# Altium footprint library ethernet.PcbLib: 3 footprints
Each footprint in its own frame and in the unit in brackets; x right, y up, seen from the top. Pads: shape width x height; smd on the part's side, far side on the other; paste and mask are expansions set on the pad; w line width, h text height; cw(c..) or ccw(c..) is an arc to the next point about the centre after c.
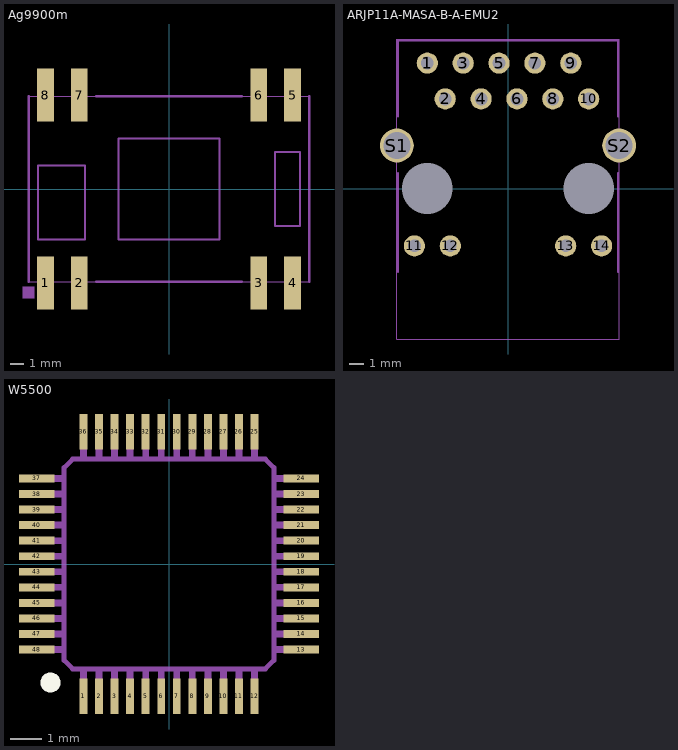
[diagram p0: the footprints below, top view; thin cyan lines are the x and y axes]

## Ag9900m [mm] "PoE Power Supply Module"
pads (8):
  rect 1.25x4 smd: 1(-9.33,-7.1) 2(-6.79,-7.1) 3(6.79,-7.1) 4(9.33,-7.1) 5(9.33,7.1) 6(6.79,7.1) 7(-6.79,7.1) 8(-9.33,7.1)
Mechanical 3:
  region: 9.65,-5.72 9.65,-8.49 9.01,-8.49 9.01,-5.72
  region: 7.11,-5.72 7.11,-8.49 6.47,-8.49 6.47,-5.72
  region: -9.01,-5.72 -9.01,-8.49 -9.65,-8.49 -9.65,-5.72
  region: -6.47,-5.72 -6.47,-8.49 -7.11,-8.49 -7.11,-5.72
  region: -9.65,5.72 -9.65,8.49 -9.01,8.49 -9.01,5.72
  region: -7.11,5.72 -7.11,8.49 -6.47,8.49 -6.47,5.72
  region: 9.01,5.72 9.01,8.49 9.65,8.49 9.65,5.72
  region: 6.47,5.72 6.47,8.49 7.11,8.49 7.11,5.72
  lines w0.05: -10.6,-7 -10.6,7 10.6,7 10.6,-7 -10.6,-7
  lines w0.152: -9.906,-3.81 -9.906,1.778 -6.35,1.778 -6.35,-3.81 -9.906,-3.81 ; -3.81,-3.81 -3.81,3.81 3.81,3.81 3.81,-3.81 -3.81,-3.81 ; 8.001,-2.794 8.001,2.794 9.906,2.794 9.906,-2.794 8.001,-2.794
Mechanical 7:
  region: -11.049,-8.255 -11.049,-7.366 -10.16,-7.366 -10.16,-8.255
  lines w0.178: -10.6,-7 -10.6,7 ; -5.5,-7 5.5,-7 ; -5.5,7 5.5,7 ; 10.6,-7 10.6,7
3D body "Ag9900M_MT.stp": height 13.21, standoff 0.01, extent -10.598,-8.588 10.598,8.588

## ARJP11A-MASA-B-A-EMU2 [mil] "PoE RJ45 Jack with Magnetics and Rectifier"
pads (18):
  round 59.06 / inner round 0 / far side round 59.06 hole 35.43: 1(-225,350) 2(-175,250) 3(-125,350) 4(-75,250) 5(-25,350) 6(25,250) 7(75,350) 8(125,250) 9(175,350) 10(225,250) 11(-261.02,-159.84) 12(-161.02,-159.84) 13(161.02,-159.84) 14(261.02,-159.84)
  round 94.49 / inner round 0 / far side round 94.49 hole 75: S1(-310.04,120.08) S2(310.04,120.08)
  round 60 hole 141.73: ""(-225,0) ""(225,0)
Mechanical 3:
  lines w1.97: -310.04,-419.49 -310.04,417.13 310.04,417.13 310.04,-419.49 -310.04,-419.49
Mechanical 7:
  lines w6: -307.09,-231.89 -307.09,43.7 ; -307.09,201.18 -307.09,413.78 307.09,413.78 307.09,201.18 ; 307.09,-231.89 307.09,43.7
3D body "ARJP11A-MASA-B-A-EMU2--3DModel-STEP-1.STEP": height 631.66, standoff -129.92, extent -406.54,-429.13 406.54,420.87

## W5500 [mil] "SPI Ethernet Chip"
pads (48):
  rect 10x45 smd: 1(-108.27,-167.32) 2(-88.58,-167.32) 3(-68.9,-167.32) 4(-49.21,-167.32) 5(-29.53,-167.32) 6(-9.84,-167.32) 7(9.84,-167.32) 8(29.53,-167.32) 9(49.21,-167.32) 10(68.9,-167.32) 11(88.58,-167.32) 12(108.27,-167.32) 25(108.27,167.32) 26(88.58,167.32) 27(68.9,167.32) 28(49.21,167.32) 29(29.53,167.32) 30(9.84,167.32) 31(-9.84,167.32) 32(-29.53,167.32) 33(-49.21,167.32) 34(-68.9,167.32) 35(-88.58,167.32) 36(-108.27,167.32)
  rect 45x10 smd: 13(167.32,-108.27) 14(167.32,-88.58) 15(167.32,-68.9) 16(167.32,-49.21) 17(167.32,-29.53) 18(167.32,-9.84) 19(167.32,9.84) 20(167.32,29.53) 21(167.32,49.21) 22(167.32,68.9) 23(167.32,88.58) 24(167.32,108.27) 37(-167.32,108.27) 38(-167.32,88.58) 39(-167.32,68.9) 40(-167.32,49.21) 41(-167.32,29.53) 42(-167.32,9.84) 43(-167.32,-9.84) 44(-167.32,-29.53) 45(-167.32,-49.21) 46(-167.32,-68.9) 47(-167.32,-88.58) 48(-167.32,-108.27)
Top Overlay:
  region: -137.45,-150 -137.45,-147.5 -139.36,-142.89 -142.89,-139.36 -147.5,-137.45 -150,-137.45 -152.5,-137.45 -157.11,-139.36 -160.64,-142.89 -162.55,-147.5 -162.55,-150 -162.55,-152.5 -160.64,-157.11 -157.11,-160.64 -152.5,-162.55 -150,-162.55 -147.5,-162.55 -142.89,-160.64 -139.36,-157.11 -137.45,-152.5
Mechanical 3:
  drawing of 48 lines, arcs and shapes, not listed
Mechanical 7:
  lines w6: -132.87,-122.05 -122.05,-132.87 122.05,-132.87 132.87,-122.05 132.87,122.05 122.05,132.87 -122.05,132.87 -132.87,122.05 -132.87,-122.05
3D body "W5500--3DModel-STEP-56544.STEP": height 62.99, standoff 0, extent -177.17,-177.17 177.17,177.17